# Altium footprint library HAB_Lib.PcbLib: 104 footprints (part 1 of 7)
Each footprint in its own frame and in the unit in brackets; x right, y up, seen from the top. Pads: shape width x height; smd on the part's side, far side on the other; paste and mask are expansions set on the pad; w line width, h text height; cw(c..) or ccw(c..) is an arc to the next point about the centre after c.
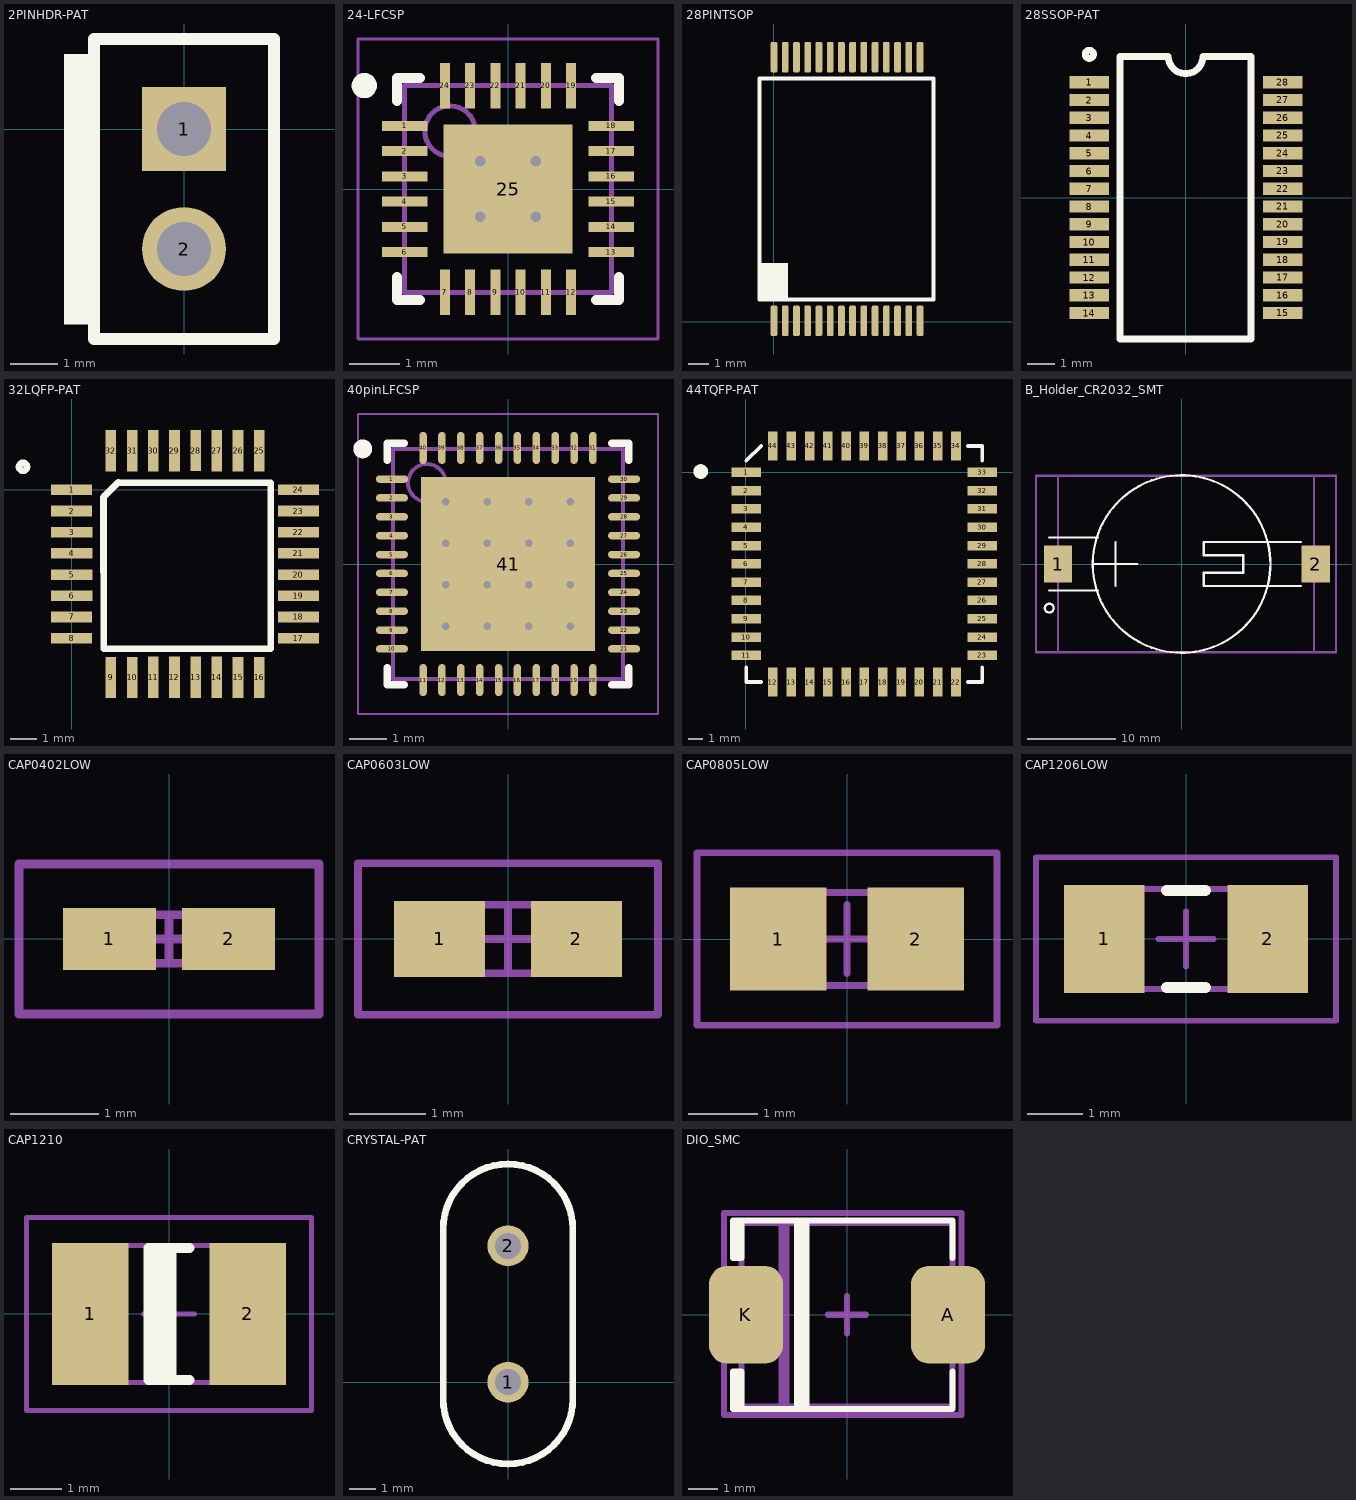
[diagram p0: the footprints below, top view; thin cyan lines are the x and y axes]

## 2PINHDR-PAT [mil]
pads (2):
  rect 70x70 hole 45: 1(0,0)
  round 70 hole 45: 2(0,-100)
Top Overlay:
  region: -75,62.5 -100,62.5 -100,-162.5 -75,-162.5
  lines w10: -75,-175 75,-175 75,75 -75,75 -75,-175

## 4x4-24pinquad [mm]

## 24-LFCSP [mm] "LFCSP, 24-Leads, Body 4.00x4.00mm, Pitch 0.50mm, Thermal Pad 2.55x2.55mm, IPC Low Density"
height 0.8
pads (25):
  rect 0.9x0.2 smd: 1(-2.05,1.25) 2(-2.05,0.75) 3(-2.05,0.25) 4(-2.05,-0.25) 5(-2.05,-0.75) 6(-2.05,-1.25) 13(2.05,-1.25) 14(2.05,-0.75) 15(2.05,-0.25) 16(2.05,0.25) 17(2.05,0.75) 18(2.05,1.25)
  rect 0.2x0.9 smd: 7(-1.25,-2.05) 8(-0.75,-2.05) 9(-0.25,-2.05) 10(0.25,-2.05) 11(0.75,-2.05) 12(1.25,-2.05) 19(1.25,2.05) 20(0.75,2.05) 21(0.25,2.05) 22(-0.25,2.05) 23(-0.75,2.05) 24(-1.25,2.05)
  rect 2.55x2.55 smd: 25(0,0)
via 0.55,-0.55 diameter 0.5 hole 0.2
via -0.55,-0.55 diameter 0.5 hole 0.2
via 0.55,0.55 diameter 0.5 hole 0.2
via -0.55,0.55 diameter 0.5 hole 0.2
Top Overlay:
  circle w0.25: c-2.85,2.05 r0.125
  lines w0.2: -2.2,-1.75 -2.2,-2.2 -1.75,-2.2 ; -2.2,1.75 -2.2,2.2 -1.75,2.2 ; 1.75,-2.2 2.2,-2.2 2.2,-1.75 ; 1.75,2.2 2.2,2.2 2.2,1.75
Mechanical 13:
  circle w0.1: c-1.15,1.15 r0.5
  lines w0.1: -2.05,-2.05 2.05,-2.05 2.05,2.05 -2.05,2.05 -2.05,-2.05
Mechanical 15:
  lines w0.05: -2.975,-2.975 2.975,-2.975 2.975,2.975 -2.975,2.975 -2.975,-2.975
  lines w0.1: -0.5,0 0.5,0 ; 0,-0.5 0,0.5
3D body: height 0.8, standoff 0.05, extent -2.05,-2.05 2.05,2.05

## 28PINTSOP [mm]
pads (28):
  rrect50% 0.33x1.5 smd mask-25.4: 1(0,0.05) 2(0.55,0.05) 3(1.1,0.05) 4(1.65,0.05) 5(2.2,0.05) 6(2.75,0.05) 7(3.3,0.05) 8(3.85,0.05) 9(4.4,0.05) 10(4.95,0.05) 11(5.5,0.05) 12(6.05,0.05) 13(6.6,0.05) 14(7.15,0.05) 15(7.15,12.95) 16(6.6,12.95) 17(6.05,12.95) 18(5.5,12.95) 19(4.95,12.95) 20(4.4,12.95) 21(3.85,12.95) 22(3.3,12.95) 23(2.75,12.95) 24(2.2,12.95) 25(1.65,12.95) 26(1.1,12.95) 27(0.55,12.95) 28(0,12.95)
Top Overlay:
  region: 0.684,1.081 0.684,2.859 -0.713,2.859 -0.713,1.081
  lines w0.203: -0.7,1.1 -0.7,11.4 -0.7,11.9 7.8,11.9 7.8,1.1 -0.7,1.1
Top Solder:
  region: 0.191,-0.839 0.191,0.939 -0.191,0.939 -0.191,-0.839
  region: 0.74,-0.839 0.74,0.939 0.359,0.939 0.359,-0.839
  region: 1.291,-0.839 1.291,0.939 0.91,0.939 0.91,-0.839
  region: 1.84,-0.839 1.84,0.939 1.459,0.939 1.459,-0.839
  region: 2.391,-0.839 2.391,0.939 2.01,0.939 2.01,-0.839
  region: 2.94,-0.839 2.94,0.939 2.559,0.939 2.559,-0.839
  region: 0.191,12.061 0.191,13.839 -0.191,13.839 -0.191,12.061
  region: 0.74,12.061 0.74,13.839 0.359,13.839 0.359,12.061
  region: 1.291,12.061 1.291,13.839 0.91,13.839 0.91,12.061
  region: 1.84,12.061 1.84,13.839 1.459,13.839 1.459,12.061
  region: 2.391,12.061 2.391,13.839 2.01,13.839 2.01,12.061
  region: 2.94,12.061 2.94,13.839 2.559,13.839 2.559,12.061
  region: 4.04,-0.839 4.04,0.939 3.659,0.939 3.659,-0.839
  region: 4.59,-0.839 4.59,0.939 4.209,0.939 4.209,-0.839
  region: 5.141,-0.839 5.141,0.939 4.76,0.939 4.76,-0.839
  region: 5.69,-0.839 5.69,0.939 5.309,0.939 5.309,-0.839
  region: 6.241,-0.839 6.241,0.939 5.86,0.939 5.86,-0.839
  region: 6.79,-0.839 6.79,0.939 6.409,0.939 6.409,-0.839
  region: 7.341,-0.839 7.341,0.939 6.96,0.939 6.96,-0.839
  region: 4.04,12.061 4.04,13.839 3.659,13.839 3.659,12.061
  region: 4.59,12.061 4.59,13.839 4.209,13.839 4.209,12.061
  region: 5.141,12.061 5.141,13.839 4.76,13.839 4.76,12.061
  region: 5.69,12.061 5.69,13.839 5.309,13.839 5.309,12.061
  region: 6.241,12.061 6.241,13.839 5.86,13.839 5.86,12.061
  region: 6.79,12.061 6.79,13.839 6.409,13.839 6.409,12.061
  region: 7.341,12.061 7.341,13.839 6.96,13.839 6.96,12.061
  region: 3.491,-0.839 3.491,0.939 3.11,0.939 3.11,-0.839
  region: 3.491,12.061 3.491,13.839 3.11,13.839 3.11,12.061

## 28SSOP-PAT [mm]
pads (28):
  rect 1.45x0.45 smd: 1(-3.525,4.225) 2(-3.525,3.575) 3(-3.525,2.925) 4(-3.525,2.275) 5(-3.525,1.625) 6(-3.525,0.975) 7(-3.525,0.325) 8(-3.525,-0.325) 9(-3.525,-0.975) 10(-3.525,-1.625) 11(-3.525,-2.275) 12(-3.525,-2.925) 13(-3.525,-3.575) 14(-3.525,-4.225) 15(3.554,-4.22) 16(3.554,-3.57) 17(3.554,-2.92) 18(3.554,-2.27) 19(3.554,-1.62) 20(3.554,-0.97) 21(3.554,-0.32) 22(3.554,0.33) 23(3.554,0.98) 24(3.554,1.63) 25(3.554,2.28) 26(3.554,2.93) 27(3.554,3.58) 28(3.554,4.23)
Top Overlay:
  circle w0.25: c-3.525,5.25 r0.15
  lines w0.25: -2.4,-5.175 -2.4,5.175 -0.635,5.175 ccw(c0,5.175) 0.635,5.175 2.4,5.175 2.4,-5.175 -2.4,-5.175

## 32LQFP-PAT [mm]
pads (32):
  rect 1.55x0.4 smd: 1(0,-0.002) 2(0,-0.802) 3(0.001,-1.602) 4(0.001,-2.403) 5(0.002,-3.203) 6(0.001,-4.003) 7(0,-4.8) 8(0,-5.599) 17(8.555,-5.6) 18(8.555,-4.8) 19(8.554,-4) 20(8.554,-3.199) 21(8.553,-2.399) 22(8.554,-1.599) 23(8.555,-0.802) 24(8.555,-0.003)
  rect 0.4x1.55 smd: 9(1.478,-7.076) 10(2.278,-7.076) 11(3.078,-7.075) 12(3.879,-7.075) 13(4.679,-7.074) 14(5.479,-7.075) 15(6.276,-7.076) 16(7.075,-7.076) 25(7.075,1.472) 26(6.276,1.472) 27(5.479,1.473) 28(4.679,1.474) 29(3.879,1.473) 30(3.078,1.473) 31(2.278,1.472) 32(1.478,1.472)
Top Overlay:
  circle w0.25: c-1.838,0.866 r0.15
  lines w0.249: 1.2,-0.276 1.75,0.273
  lines w0.25: 1.2,-0.276 1.205,-5.999 ; 1.207,-6 7.471,-6.003 ; 1.75,0.273 7.507,0.271 ; 7.506,-6.001 7.506,0.263

## 40pinLFCSP [mm]
height 0.8
pads (41):
  oval 0.85x0.2 smd: 1(-3.075,2.25) 2(-3.075,1.75) 3(-3.075,1.25) 4(-3.075,0.75) 5(-3.075,0.25) 6(-3.075,-0.25) 7(-3.075,-0.75) 8(-3.075,-1.25) 9(-3.075,-1.75) 10(-3.075,-2.25) 21(3.075,-2.25) 22(3.075,-1.75) 23(3.075,-1.25) 24(3.075,-0.75) 25(3.075,-0.25) 26(3.075,0.25) 27(3.075,0.75) 28(3.075,1.25) 29(3.075,1.75) 30(3.075,2.25)
  oval 0.2x0.85 smd: 11(-2.25,-3.075) 12(-1.75,-3.075) 13(-1.25,-3.075) 14(-0.75,-3.075) 15(-0.25,-3.075) 16(0.25,-3.075) 17(0.75,-3.075) 18(1.25,-3.075) 19(1.75,-3.075) 20(2.25,-3.075) 31(2.25,3.075) 32(1.75,3.075) 33(1.25,3.075) 34(0.75,3.075) 35(0.25,3.075) 36(-0.25,3.075) 37(-0.75,3.075) 38(-1.25,3.075) 39(-1.75,3.075) 40(-2.25,3.075)
  rect 4.6x4.6 smd: 41(0,0)
via 1.65,-1.65 diameter 0.5 hole 0.2
via 0.55,-1.65 diameter 0.5 hole 0.2
via -0.55,-1.65 diameter 0.5 hole 0.2
via -1.65,-1.65 diameter 0.5 hole 0.2
via 1.65,-0.55 diameter 0.5 hole 0.2
via 0.55,-0.55 diameter 0.5 hole 0.2
via -0.55,-0.55 diameter 0.5 hole 0.2
via -1.65,-0.55 diameter 0.5 hole 0.2
via 1.65,0.55 diameter 0.5 hole 0.2
via 0.55,0.55 diameter 0.5 hole 0.2
via -0.55,0.55 diameter 0.5 hole 0.2
via -1.65,0.55 diameter 0.5 hole 0.2
via 1.65,1.65 diameter 0.5 hole 0.2
via 0.55,1.65 diameter 0.5 hole 0.2
via -0.55,1.65 diameter 0.5 hole 0.2
via -1.65,1.65 diameter 0.5 hole 0.2
Top Overlay:
  circle w0.25: c-3.85,3.05 r0.125
  lines w0.2: -3.2,-2.75 -3.2,-3.2 -2.75,-3.2 ; -3.2,2.75 -3.2,3.2 -2.75,3.2 ; 2.75,-3.2 3.2,-3.2 3.2,-2.75 ; 2.75,3.2 3.2,3.2 3.2,2.75
Mechanical 13:
  circle w0.1: c-2.15,2.15 r0.5
  lines w0.1: -3.05,-3.05 3.05,-3.05 3.05,3.05 -3.05,3.05 -3.05,-3.05
Mechanical 15:
  lines w0.05: -3.975,-3.975 3.975,-3.975 3.975,3.975 -3.975,3.975 -3.975,-3.975
  lines w0.1: -0.5,0 0.5,0 ; 0,-0.5 0,0.5
3D body: height 0.8, standoff 0.02, extent -3.05,-3.05 3.05,3.05

## 44TQFP-PAT [mil]
pads (44):
  rect 80x26 smd: 1(0.75,0.5) 2(0.75,-49.5) 3(0.75,-99.5) 4(0.75,-149.5) 5(0.75,-199.5) 6(0.75,-249.5) 7(0.75,-299.5) 8(0.75,-349.5) 9(0.75,-399.5) 10(0.75,-449.5) 11(0.75,-499.5) 23(645.75,-499.5) 24(645.75,-449.5) 25(645.75,-399.5) 26(645.75,-349.5) 27(645.75,-299.5) 28(645.75,-249.5) 29(645.75,-199.5) 30(645.75,-149.5) 31(645.75,-99.5) 32(645.75,-49.5) 33(645.75,0.5)
  rect 26x80 smd: 12(73.75,-572.5) 13(123.75,-572.5) 14(173.75,-572.5) 15(223.75,-572.5) 16(273.75,-572.5) 17(323.75,-572.5) 18(373.75,-572.5) 19(423.75,-572.5) 20(473.75,-572.5) 21(523.75,-572.5) 22(573.75,-572.5) 34(573.75,72.5) 35(523.75,72.5) 36(473.75,72.5) 37(423.75,72.5) 38(373.75,72.5) 39(323.75,72.5) 40(273.75,72.5) 41(223.75,72.5) 42(173.75,72.5) 43(123.75,72.5) 44(73.75,72.5)
Top Overlay:
  circle w20: c-123.75,2.5 r10
  lines w10: 0.75,-532.5 0.75,-572.5 41.75,-572.5 ; 0.75,32.5 41.75,72.5 ; 605.75,-572.5 645.75,-572.5 645.75,-532.5 ; 605.75,72.5 645.75,72.5 645.75,32.5

## B_Holder_CR2032_SMT [mm] "HOLDER COIN CELL 2032 SMD"
height 5.3
pads (2):
  rect 3.2x4.2 smd: 1(-14,0) 2(15.2,0)
Top Overlay:
  circle w0.254: c-15,-5 r0.5
  circle w0.254: c0,0 r10.062
  lines w0.254: -15,-3 -9.5,-3 ; -15,3 -9.5,3 ; -10,0 -5,0 ; -7.5,-2.5 -7.5,2.5 ; 13.5,-2.5 2.5,-2.5 2.5,-1 7,-1 7,1 2.5,1 2.5,2.5 13.5,2.5
Mechanical 13:
  lines w0.254: -14,-10 15,-10 15,10 -14,10 -14,-10
Mechanical 15:
  lines w0.254: -16.5,-10 -16.5,10 17.5,10 17.5,-10 -16.5,-10
3D body: height 5.3, standoff 0, extent -14.127,-10.127 15.127,10.127

## CAP0402LOW [mm] "Chip Capacitor, 2-Leads, 0402, IPC Low Density"
height 0.55
pads (2):
  rect 1.05x0.7 smd: 1(-0.675,0) 2(0.675,0)
Mechanical 13:
  lines w0.1: -0.525,-0.275 -0.525,0.275 0.525,0.275 0.525,-0.275 -0.525,-0.275
Mechanical 15:
  lines w0.1: -0.275,0 0.275,0 ; 0,-0.275 0,0.275 ; -1.7,-0.85 -1.7,0.85 1.7,0.85 1.7,-0.85 -1.7,-0.85
3D body: height 0.55, standoff 0, extent -0.525,-0.275 0.525,0.275

## CAP0603LOW [mm] "Chip Capacitor, 2-Leads, 0603, IPC Low Density"
height 0.9
pads (2):
  rect 1.2x1 smd: 1(-0.9,0) 2(0.9,0)
Mechanical 13:
  lines w0.1: -0.85,-0.45 -0.85,0.45 0.85,0.45 0.85,-0.45 -0.85,-0.45
Mechanical 15:
  lines w0.1: -0.45,0 0.45,0 ; 0,-0.45 0,0.45 ; -1.975,-1 -1.975,1 1.975,1 1.975,-1 -1.975,-1
3D body: height 0.9, standoff 0, extent -0.85,-0.45 0.85,0.45

## CAP0805LOW [mm] "Chip Capacitor, 2-Leads, 0805, IPC Low Density"
height 1.35
pads (2):
  rect 1.4x1.5 smd: 1(-1,0) 2(1,0)
Mechanical 13:
  lines w0.1: -1.05,-0.675 -1.05,0.675 1.05,0.675 1.05,-0.675 -1.05,-0.675
Mechanical 15:
  lines w0.1: -0.5,0 0.5,0 ; 0,-0.5 0,0.5 ; -2.175,-1.25 -2.175,1.25 2.175,1.25 2.175,-1.25 -2.175,-1.25
3D body: height 1.35, standoff 0, extent -1.05,-0.675 1.05,0.675

## CAP1206LOW [mm] "Chip Capacitor, 2-Leads, Body 3.1x1.6mm, IPC Low Density"
height 1.8
pads (2):
  rect 1.45x1.95 smd: 1(-1.475,0) 2(1.475,0)
Top Overlay:
  lines w0.2: -0.35,-0.875 0.35,-0.875 ; -0.35,0.875 0.35,0.875
Mechanical 13:
  lines w0.1: -1.6,-0.9 -1.6,0.9 1.6,0.9 1.6,-0.9 -1.6,-0.9
Mechanical 15:
  lines w0.1: -0.5,0 0.5,0 ; 0,-0.5 0,0.5 ; -2.7,-1.475 -2.7,1.475 2.7,1.475 2.7,-1.475 -2.7,-1.475
3D body: height 1.8, standoff 0, extent -1.65,-0.95 1.65,0.95

## CAP1210 [mm] "Chip Capacitor, 2-Leads, IPC Low Density"
height 1.4
pads (2):
  rect 1.5x2.8 smd: 1(-1.55,0) 2(1.55,0)
Top Overlay:
  rectangle: -0.4,-1.3 0.15,1.3
  lines w0.2: 0.4,-1.3 -0.4,-1.3 -0.4,1.3 0.4,1.3
Mechanical 13:
  lines w0.1: -1.7,-1.35 1.7,-1.35 1.7,1.35 -1.7,1.35 -1.7,-1.35
Mechanical 15:
  lines w0.1: -0.5,0 0.5,0 ; 0,-0.5 0,0.5 ; -2.8,-1.9 2.8,-1.9 2.8,1.9 -2.8,1.9 -2.8,-1.9
3D body: height 1.4, standoff 0, extent -1.7,-1.35 1.7,1.35

## CRYSTAL-PAT [mil]
pads (2):
  round 60 hole 38: 1(0,0) 2(0,200)
Top Overlay:
  lines w10: -95,-25 ccw(c0,-25) 95,-25 95,225 ccw(c0,225) -95,225 -95,-25

## DIO_SMC [mil]
pads (2):
  rrect50% 98x130 smd: A(134,0) K(-134,0)
Top Overlay:
  lines w8: 140,-75 140,-125 -140,-125 ; 140,75 140,125 -140,125 ; -151,-125 -151,-75 -140,-75 ; -151,-125 -140,-125 ; -151,-125 -145.5,-125 -145.5,-75 -140,-75 ; -151,75 -145.5,75 -145.5,125 -140,125 ; -151,75 -151,125 -140,125 ; -151,75 -140,75 -140,125 ; -140,-125 -140,-75 ; -140,-125 -140,-75
  lines w11: -65,-123 -65,123 ; -55,-123 -55,123
Mechanical 13:
  lines w8: -87,122 -87,-122 -80,-122 -80,122 -79,122 ; -140,-122 140,-122 140,122 -140,122 -140,-122
Mechanical 15:
  lines w8: -25,0 25,0 ; 0,-25 0,25 ; -163,-133 152,-133 152,135 -163,135 -163,-133
3D body: height 98, standoff 0, extent -140,-122 140,122